# EAGLE library part SPARKFUN-CONNECTORS_FTDI_DEVICE (library boat6)
Connector which mates to FTDI basic or FTDI cable.
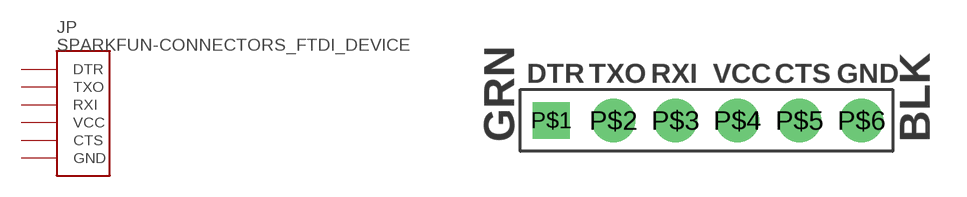
[diagram p4: symbol with the pads of SPARKFUN-CONNECTORS_FTDI_DEVICE_SIDE; footprint SPARKFUN-CONNECTORS_FTDI_DEVICE_SIDE]

Designator prefix JP

## SPARKFUN-CONNECTORS_FTDI_DEVICE  [SPARKFUN-CONNECTORS_FTDI_DEVICE_SIDE]
P$1  DTR
P$2  TXO
P$3  RXI
P$4  VCC
P$5  CTS
P$6  GND

## Footprint SPARKFUN-CONNECTORS_FTDI_DEVICE_SIDE (pad centres in mm)
Package for devices meant to mate to an FTDI connector.
drill 1 square: P$1 -6.35,0
drill 1.016 pad 1.778: P$2 -3.81,0; P$3 -1.27,0; P$4 1.27,0; P$5 3.81,0; P$6 6.35,0